# EAGLE library part TPS7333 (library tmxk)
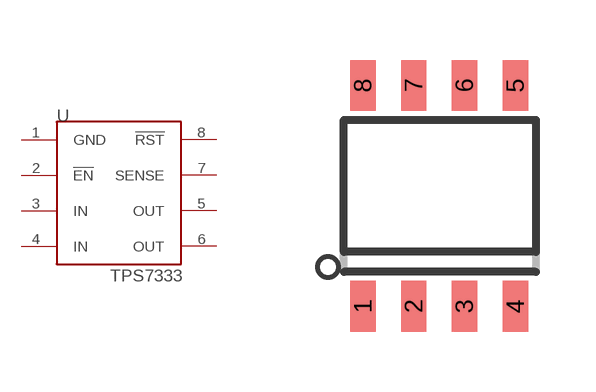
[diagram p41: symbol with the pads of SOP8; footprint SOP8]

Designator prefix U

## TPS7333  [SOP8]
1  GND
2  !EN
3  IN
4  IN
5  OUT
6  OUT
7  SENSE
8  !RST

## Footprint SOP8 (pad centres in mm)
Small Outline Package 8 NS Package M08A
smd 0.635 x 1.27: 1 -1.925,-2.76; 2 -0.655,-2.76; 3 0.615,-2.76; 4 1.885,-2.76; 5 1.885,2.76; 6 0.615,2.76; 7 -0.655,2.76; 8 -1.925,2.76